# Altium footprint library SOT-363_35um.PcbLib: 1 footprints
Each footprint in its own frame and in the unit in brackets; x right, y up, seen from the top. Pads: shape width x height; smd on the part's side, far side on the other; paste and mask are expansions set on the pad; w line width, h text height; cw(c..) or ccw(c..) is an arc to the next point about the centre after c.
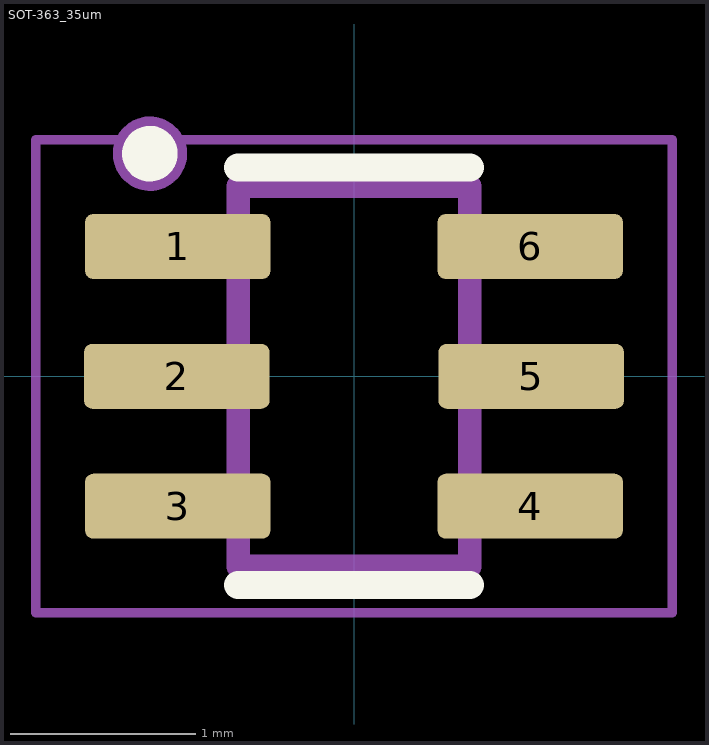
[diagram p0: the footprint, top view; thin cyan lines are the x and y axes]

## SOT-363_35um [mm]
pads (6):
  rrect25% 1x0.35 smd: 1(-0.95,0.7) 2(-0.955,0) 3(-0.95,-0.7) 4(0.95,-0.7) 5(0.955,0) 6(0.95,0.7)
Top Overlay:
  circle w0.15: c-1.1,1.2 r0.075
  lines w0.15: -0.625,-1.125 0.625,-1.125 ; -0.625,1.125 0.625,1.125
Assembly Top:
  circle w0.2: c-1.1,1.2 r0.1
  lines w0.127: -0.625,-1.025 0.625,-1.025 0.625,1.025 -0.625,1.025 -0.625,-1.025
Courtyard Top:
  lines w0.05: -1.715,-1.275 1.715,-1.275 1.715,1.275 -1.715,1.275 -1.715,-1.275
3D body "step_temp.STEP": height 1.1, standoff 0, extent -1.112,-1 1.112,1